# EAGLE library part M93C86-WMN6P (library ST_Microelctronics_By_element14_Batch_1)
serial access EEPROM
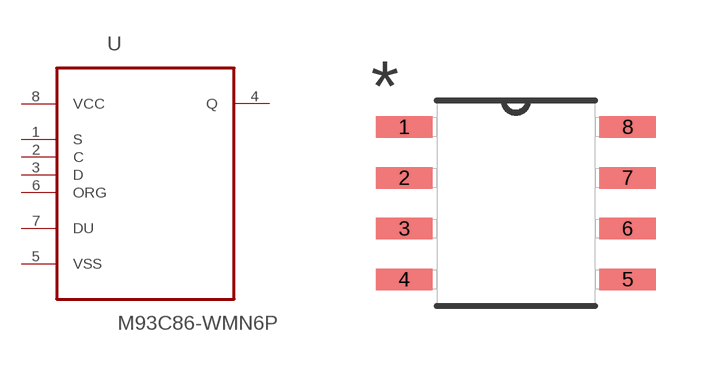
[diagram p262: symbol with the pads of SOIC127P600X175-8N; footprint SOIC127P600X175-8N]

Designator prefix U

## M93C86-WMN6P (MPN: M93C86-WMN6P; OC_FARNELL: 9882707; OC_NEWARK: 24M5193; PACKAGE: SOIC-8; SUPPLIER: STMICROELECTRONICS)  [SOIC127P600X175-8N]
1  S  in
2  C  in
3  D  in
4  Q  out
5  VSS  pas
6  ORG  in
7  DU  nc
8  VCC  pwr

## Footprint SOIC127P600X175-8N (pad centres in mm)
smd 1.422 x 0.533: 1 -2.794,1.905; 2 -2.794,0.635; 3 -2.794,-0.635; 4 -2.794,-1.905; 5 2.794,-1.905; 6 2.794,-0.635; 7 2.794,0.635; 8 2.794,1.905